# Altium schematic symbol library ATLAS_XP2V5.SCHLIB: 43 symbols
Pins are listed as number, name and electrical type; pins without a type are passive.

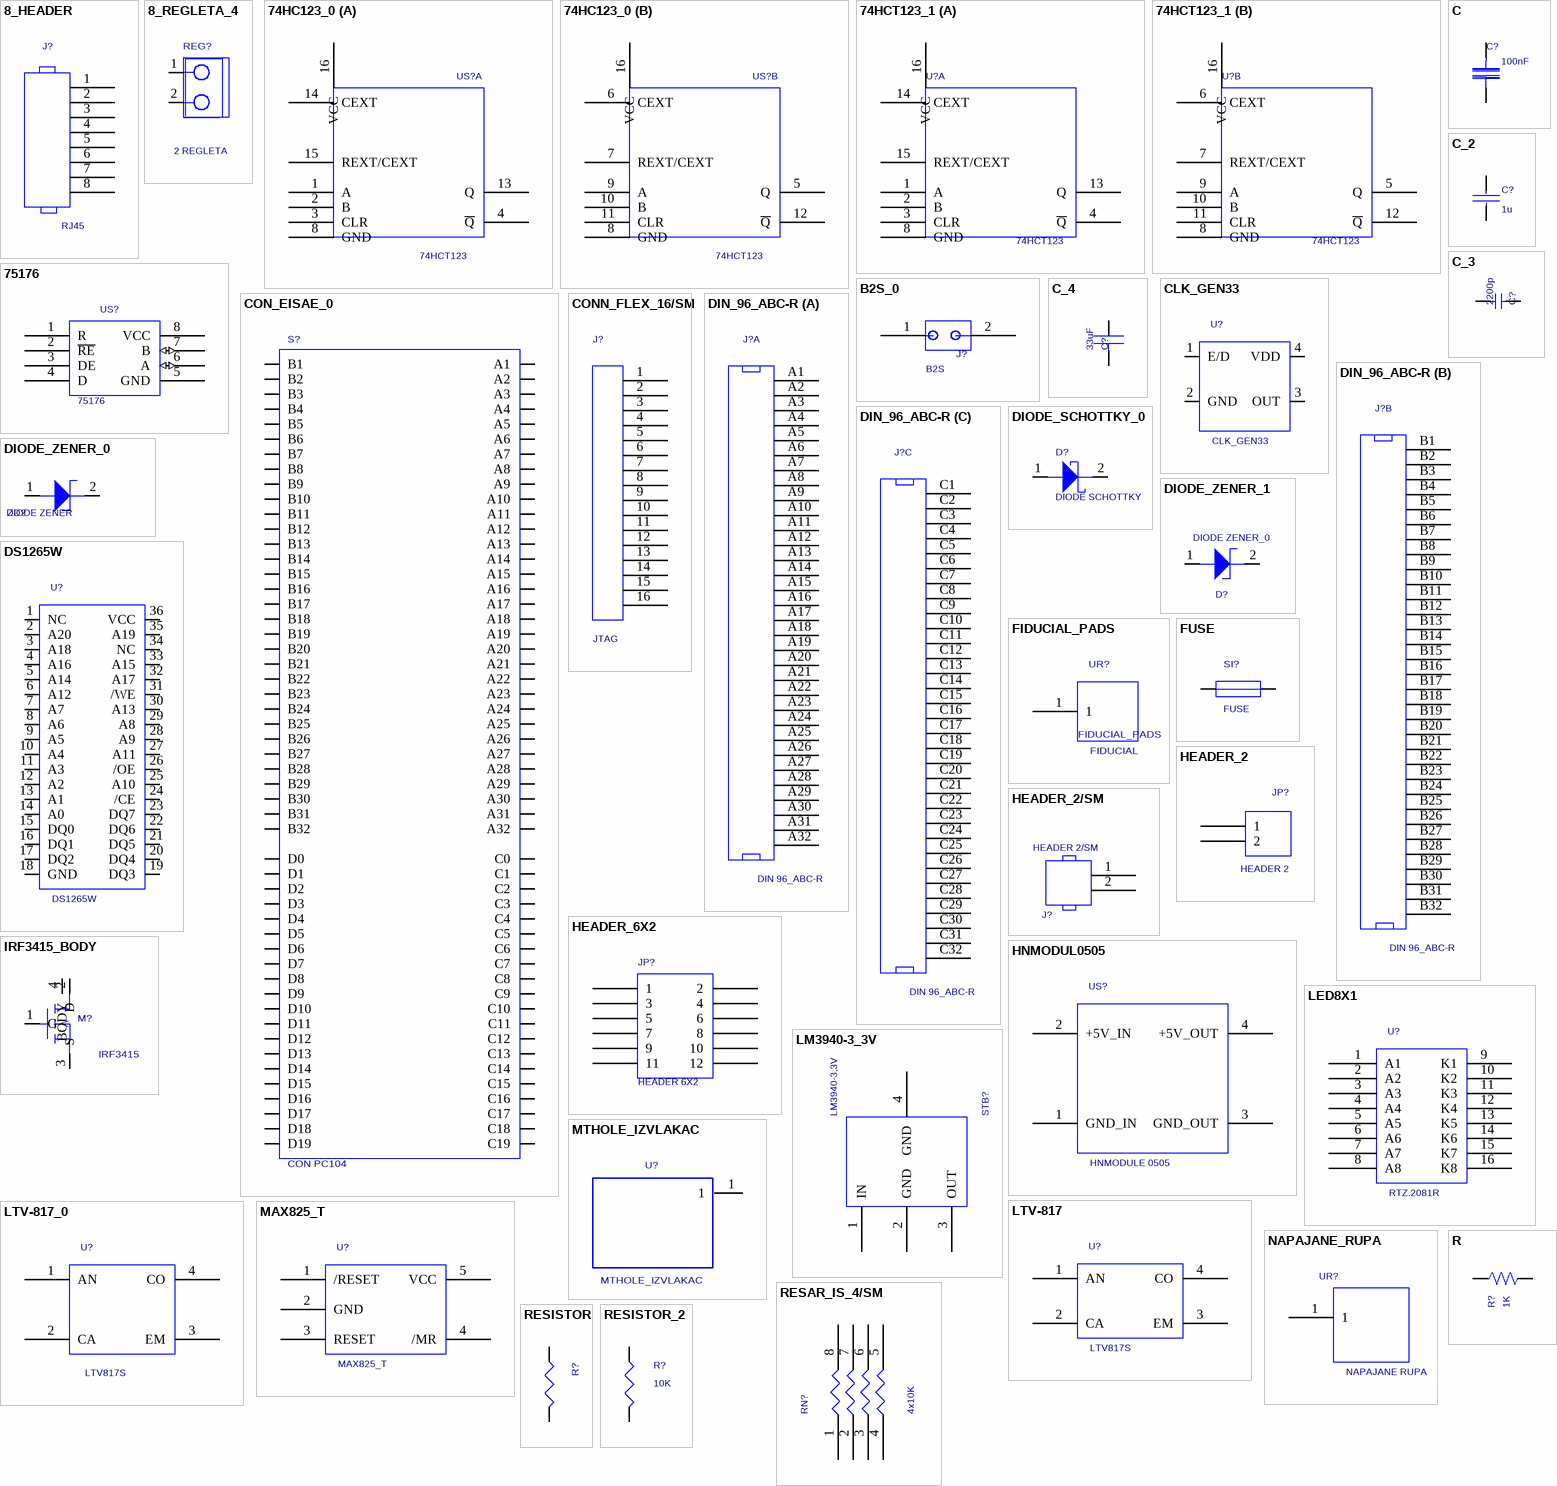
[diagram p0: symbols 8_HEADER to RESISTOR_2]

## 8_HEADER
designator J?  value RJ45  (hidden comment: 8_HEADER)
PCB DECAL: TELE/TM.420FACE/8X8; Source_Path: C:\CADENCE\PSD_15.1\TOOLS\CAPTURE\LIBRARY\CONNECTOR.OLB
footprint TELE/TM.420FACE/8X8
pins: 1, 2, 3, 4, 5, 6, 7, 8

## 8_REGLETA_4
designator REG?  value 2 REGLETA  (hidden comment: 8_REGLETA_4)
PCB DECAL: REG2_REV8; Source_Path: E:\MILOS\PROJECTS\ATLAS_XP\ATLAS_XP.DSN; SDTSourceLibName: C:\WINDOWS\TEMP\ATP_00.LIB
footprint REG2_REV8
pins: 1, 2

## 74HC123_0
designator US?  value 74HCT123  (hidden comment: 74HC123_0)
PCB DECAL: SOG.050/16/WG.244/L.375; Source_Path: E:\MILOS\PROJECTS\ATLAS_XP\ATLAS_XP.DSN
footprint SOG.050/16/WG.244/L.375
part A pins: 1 A, 2 B, 3 CLR, 4 ~{Q}, 8 GND (power), 13 Q, 14 CEXT, 15 REXT/CEXT, 16 VCC (power)
part B pins: 5 Q, 6 CEXT, 7 REXT/CEXT, 8 GND (power), 9 A, 10 B, 11 CLR, 12 ~{Q}, 16 VCC (power)

## 74HCT123_1
designator U?  value 74HCT123  (hidden comment: 74HCT123_1)
PCB DECAL: SOG.050/16/WG.244/L.375; Source_Path: E:\MILOS\PROJECTS\ATLAS_XP\ATLAS_XP.DSN; SDTSourceLibName: C:\WINDOWS\TEMP\PC2A_00.LIB
footprint SOG.050/16/WG.244/L.375
part A pins: 1 A, 2 B, 3 CLR, 4 ~{Q}, 8 GND (power), 13 Q, 14 CEXT, 15 REXT/CEXT, 16 VCC (power)
part B pins: 5 Q, 6 CEXT, 7 REXT/CEXT, 8 GND (power), 9 A, 10 B, 11 CLR, 12 ~{Q}, 16 VCC (power)

## 75176
designator US?
PCB DECAL: SOG.050/8/WG.244/L.225; Source_Path: C:\ORCADESP\SDT\LIBRARY\TARIFA_O.OLB; Value: 75176
footprint SOG.050/8/WG.244/L.225
pins: 1 R (hiz), 2 ~{RE}, 3 DE, 4 D, 5 GND, 6 A (io), 7 B (io), 8 VCC

## B2S_0
designator J?  value B2S  (hidden comment: B2S_0)
PCB DECAL: JUMPER_100; Source_Path: C:\CADENCE\PSD_15.1\TOOLS\ATLAS_ITA\ATLAS_ITA.DSN
footprint JUMPER_100
pins: 1, 2

## C
designator C?  value 100nF  (hidden comment: C)
PCB DECAL: SM/C_0805; Source_Path: D:\ORCADWIN\CAPTURE\ATP_LATT_01\ATP_00.OLB; SDTSourceLibName: C:\WINDOWS\TEMP\ATP_00.LIB
footprint SM/C_0805
pins: 1, 2

## C_2
designator C?  value 1u  (hidden comment: C_2)
PCB DECAL: SM/C_0805; Source_Path: D:\ORCADWIN\CAPTURE\PTA\PC2A_00.OLB; SDTSourceLibName: C:\WINDOWS\TEMP\PC2A_00.LIB
footprint SM/C_0805
pins: 1, 2

## C_3
designator C?  value 2200p  (hidden comment: C_3)
PCB DECAL: SM/C_0805; COMPSIDE: TOP; COMPLOC: [-3400.000,200.000]; COMPROT: 0; COMPFIXED: NO; COMPHEIGHT: 0.000; Source_Path: C:\ORCAD\ORCAD_10.0\TOOLS\CAPTURE\LIBRARY\PSPICE\ANALOG.OLB; DIST: FLAT; PSpiceTemplate: C^@REFDES %1 %2 ?TOLERANCE|C^@REFDES| @VALUE ?IC/IC=@IC/ ?TOLERANCE|\n.model C^@REFDES CAP C=1 DEV=@TOLERANCE%|; VOLTAGE: CMAX; CURRENT: CIMAX; KNEE: CBMAX; SLOPE: CSMAX; MAX_TEMP: CTMAX; COMPGROUP: 0; COMPLOCKED: NO; COMPKEY: NO; DECOUPLER: NO; MEMORY: NO
footprint SM/C_0805
pins: 1, 2

## C_4
designator C?  value 33uF  (hidden comment: C_4)
PCB DECAL: CASE_D_MILOS; Source_Path: C:\ORCAD\ORCAD_10.5\TOOLS\CAPTURE\LIBRARY\IEC\DEVICE.OLB
footprint CASE_D_MILOS
pins: 1, 2

## CLK_GEN33
designator U?
PCB DECAL: CLK_GEN33_REV1; Source_Path: C:\PROJECTS\VHDL_PROJEKTI\DIS32\BIS32_16\BIS32_16.OLB; Value: CLK_GEN33
footprint CLK_GEN33_REV1
pins: 1 E/D, 2 GND (power), 3 OUT, 4 VDD (power)

## CON_EISAE_0
designator S?  value CON PC104  (hidden comment: CON_EISAE_0)
Source_Path: C:\CADENCE\PSD_15.1\TOOLS\ATLAS_ITA\ATLAS_ITA.DSN; PCB DECAL: PC104_REV13
footprint PC104_REV13
pins: A1, A2, A3, A4, A5, A6, A7, A8, A9, A10, A11, A12, A13, A14, A15, A16, A17, A18, A19, A20, A21, A22, A23, A24, A25, A26, A27, A28, A29, A30, A31, A32, B1, B2, B3, B4, B5, B6, B7, B8, B9, B10, B11, B12, B13, B14, B15, B16, B17, B18, B19, B20, B21, B22, B23, B24, B25, B26, B27, B28, B29, B30, B31, B32, C0, C1, C2, C3, C4, C5, C6, C7, C8, C9, C10, C11, C12, C13, C14, C15, C16, C17, C18, C19, D0, D1, D2, D3, D4, D5, D6, D7, D8, D9, D10, D11, D12, D13, D14, D15, D16, D17, D18, D19

## CONN_FLEX_16/SM
designator J?  value JTAG  (hidden comment: CONN_FLEX_16/SM)
PCB DECAL: JTAG_SMD_REV2; Source_Path: C:\ORCAD\ORCAD_10.5\TOOLS\CAPTURE\LIBRARY\CONNECTOR.OLB
footprint JTAG_SMD_REV2
pins: 1, 2, 3, 4, 5, 6, 7, 8, 9, 10, 11, 12, 13, 14, 15, 16

## DIN_96_ABC-R
designator J?  value DIN 96_ABC-R  (hidden comment: DIN_96_ABC-R)
PCB DECAL: DIN96_ABC/R; Source_Path: C:\ORCAD\ORCAD_10.5\TOOLS\CAPTURE\LIBRARY\CONNECTOR.OLB
footprint DIN96_ABC/R
part A pins: A1, A2, A3, A4, A5, A6, A7, A8, A9, A10, A11, A12, A13, A14, A15, A16, A17, A18, A19, A20, A21, A22, A23, A24, A25, A26, A27, A28, A29, A30, A31, A32
part B pins: B1, B2, B3, B4, B5, B6, B7, B8, B9, B10, B11, B12, B13, B14, B15, B16, B17, B18, B19, B20, B21, B22, B23, B24, B25, B26, B27, B28, B29, B30, B31, B32
part C pins: C1, C2, C3, C4, C5, C6, C7, C8, C9, C10, C11, C12, C13, C14, C15, C16, C17, C18, C19, C20, C21, C22, C23, C24, C25, C26, C27, C28, C29, C30, C31, C32

## DIODE_SCHOTTKY_0
designator D?  value DIODE SCHOTTKY  (hidden comment: DIODE_SCHOTTKY_0)
PCB DECAL: SM/DO214AB_21; Source_Path: C:\CADENCE\PSD_15.1\TOOLS\ATLAS_ITA\ATLAS_ITA.DSN
footprint SM/DO214AB_21
pins: 1 ANODE, 2 CATHODE

## DIODE_ZENER_0
designator ZD?  value DIODE ZENER  (hidden comment: DIODE_ZENER_0)
PCB DECAL: SM/D_1206_21; Source_Path: C:\PROJECTS\VHDL_PROJEKTI\BIS32W_ORCAD\BIS32W\BIS32_16.DSN
footprint SM/D_1206_21
pins: 1 ANODE, 2 CATHODE

## DIODE_ZENER_1
designator D?  value DIODE ZENER_0  (hidden comment: DIODE_ZENER_1)
PCB DECAL: BZV55-C3V3; Source_Path: E:\MILOS\PROJECTS\ATLAS_XP2V3\ATLAS_XP2V3.DSN
footprint BZV55-C3V3
pins: 1 ANODE, 2 CATHODE

## DS1265W
designator U?
PCB DECAL: DIP.100/36/W.600/L1.850; Source_Path: E:\MILOS\PROJECTS\ATLAS_XP2V3\DALLAS.OLB; Value: DS1265W
footprint DIP.100/36/W.600/L1.850
pins: 1 NC, 2 A20, 3 A18, 4 A16, 5 A14, 6 A12, 7 A7, 8 A6, 9 A5, 10 A4, 11 A3, 12 A2, 13 A1, 14 A0, 15 DQ0 (io), 16 DQ1 (io), 17 DQ2 (io), 18 GND (power), 19 DQ3 (io), 20 DQ4 (io), 21 DQ5 (io), 22 DQ6 (io), 23 DQ7 (io), 24 /CE, 25 A10, 26 /OE, 27 A11, 28 A9, 29 A8, 30 A13, 31 /WE, 32 A17, 33 A15, 34 NC, 35 A19, 36 VCC (power)

## FIDUCIAL_PADS
designator UR?  value FIDUCIAL
Source_Path: C:\BEKAP STAROG RACUNARA\FOHUB1\FO-HUB1VER.1.01\FOHUB1\SEME\HFBR0050Z.OLB; Geometry.Height: 10.00mil; PCB DECAL: FIDUCIAL_R_TOP; Footprint: FIDUCIAL_R_TOP
footprint FIDUCIAL_R_TOP
pins: 1

## FUSE
designator SI?
PCB DECAL: FUSEHOLDER3; Source_Path: C:\CADENCE\PSD_15.1\TOOLS\CAPTURE\LIBRARY\IEC\DEVICE.OLB; Value: FUSE
footprint FUSEHOLDER3
pins: 1, 2

## HEADER_2
designator JP?  value HEADER 2  (hidden comment: HEADER_2)
PCB DECAL: JUMPER_100; Source_Path: D:\ORCADWIN\CAPTURE\PTA\PC2A_00.OLB; SDTSourceLibName: C:\WINDOWS\TEMP\PC2A_00.LIB
footprint JUMPER_100
pins: 1, 2

## HEADER_2/SM
designator J?  value HEADER 2/SM  (hidden comment: HEADER_2/SM)
PCB DECAL: JUMPER_100; Source_Path: C:\ORCAD\ORCAD_10.5\TOOLS\CAPTURE\LIBRARY\CONNECTOR.OLB
footprint JUMPER_100
pins: 1, 2

## HEADER_6X2
designator JP?  value HEADER 6X2  (hidden comment: HEADER_6X2)
PCB DECAL: BLKCON.100/VH/TM2OE/W.200/12; Source_Path: D:\ORCADWIN\CAPTURE\PTA\PC2A_00.OLB; SDTSourceLibName: C:\WINDOWS\TEMP\PC2A_00.LIB
footprint BLKCON.100/VH/TM2OE/W.200/12
pins: 1, 2, 3, 4, 5, 6, 7, 8, 9, 10, 11, 12

## HNMODUL0505
designator US?  value HNMODULE 0505  (hidden comment: HNMODUL0505)
PCB DECAL: DCDC55; Source_Path: C:\PROJECTS\ATLAS_ITA\LIBRARY1.OLB
footprint DCDC55
pins: 1 GND_IN, 2 +5V_IN (power), 3 GND_OUT, 4 +5V_OUT (power)

## IRF3415_BODY
designator M?  value IRF3415  (hidden comment: IRF3415_BODY)
COMPSIDE: TOP; COMPLOC: [-1200.000,2000.000]; COMPROT: 0; COMPFIXED: NO; COMPHEIGHT: 0.000; Source_Path: C:\CADENCE\PSD_15.1\TOOLS\ATLAS_ITA\ATLAS_ITA.DSN; PSpiceTemplate: M^@REFDES %d %g %s %s @MODEL; PCB DECAL: IRF3415_PADS_REV1; COMPGROUP: 0; COMPLOCKED: NO; COMPKEY: NO; DECOUPLER: NO; MEMORY: NO; Implementation: IRF3415
footprint IRF3415_PADS_REV1
pins: 1 G, 2 D, 3 S, 4 BODY

## LED8X1
designator U?  value RTZ.2081R  (hidden comment: LED8X1)
PCB DECAL: LED_8_REV3_PADS; Source_Path: C:\CADENCE\PSD_15.1\TOOLS\ATLAS_ITA\LIBRARY1.OLB; Geometry.Height: 5.08mm; Order No: 31 G 7692 Buerklin; Footprint: LED_8_REV2
footprint LED_8_REV3_PADS
pins: 1 A1, 2 A2, 3 A3, 4 A4, 5 A5, 6 A6, 7 A7, 8 A8, 9 K1, 10 K2, 11 K3, 12 K4, 13 K5, 14 K6, 15 K7, 16 K8

## LM3940-3_3V
designator STB?  value LM3940-3,3V  (hidden comment: LM3940-3_3V)
PCB DECAL: TO263AA_GND_PLANE_REV1; Source_Path: C:\PROJECTS\VHDL_PROJEKTI\DIS32\BIS32_16\BIS32_16.OLB
footprint TO263AA_GND_PLANE_REV1
pins: 1 IN (power), 2 GND (power), 3 OUT (power), 4 GND (power)

## LTV-817
designator U?  value LTV817S  (hidden comment: LTV-817)
PCB DECAL: LTV814S; Source_Path: C:\PROJECTS\ATLAS_XP\LIBRARY1.OLB
footprint LTV814S
pins: 1 AN, 2 CA, 3 EM, 4 CO

## LTV-817_0
designator U?  value LTV817S  (hidden comment: LTV-817_0)
PCB DECAL: LTV814S; Source_Path: E:\MILOS\PROJECTS\ATLAS_XP\ATLAS_XP.DSN
footprint LTV814S
pins: 1 AN, 2 CA, 3 EM, 4 CO

## MAX825_T
designator U?
PCB DECAL: SOT23_5_MILOS_REV4; Source_Path: E:\MILOS\PROJECTS\ATLAS_XP2V3\ATLASXP.OLB; Value: MAX825_T
footprint SOT23_5_MILOS_REV4
pins: 1 /RESET, 2 GND (power), 3 RESET, 4 /MR, 5 VCC (power)

## MTHOLE_IZVLAKAC
designator U?
Rupa za Rittal-ov izvlakac; PCB DECAL: MTH_IZVLAKAC_PADS
footprint MTH_IZVLAKAC_PADS
pins: 1

## NAPAJANE_RUPA
designator UR?  value NAPAJANE RUPA  (hidden comment: NAPAJANE_RUPA)
PCB DECAL: NAPAJANJE_RUPA_REV1; Source_Path: E:\MILOS\PROJECTS\OBRTOMER\BPC02REV1\LIBRARY1.OLB
footprint NAPAJANJE_RUPA_REV1
pins: 1 (power)

## R
designator R?  value 1K  (hidden comment: R)
PCB DECAL: SM/R_1206; Source_Path: C:\ORCAD\ORCAD_10.0\TOOLS\CAPTURE\LIBRARY\PSPICE\ANALOG.OLB; DIST: FLAT; PSpiceTemplate: R^@REFDES %1 %2 ?TOLERANCE|R^@REFDES| @VALUE  ?TOLERANCE|\n.model R^@REFDES RES R=1 DEV=@TOLERANCE%|; VOLTAGE: RVMAX; SLOPE: RSMAX; MAX_TEMP: RTMAX; POWER: RMAX
footprint SM/R_1206
pins: 1, 2

## RESAR_IS_4/SM
designator RN?  value 4x10K  (hidden comment: RESAR_IS_4/SM)
PCB DECAL: SMD_RX4; Source_Path: C:\ORCAD\ORCAD_10.5\TOOLS\CAPTURE\LIBRARY\DISCRETE.OLB
footprint SMD_RX4
pins: 1, 2, 3, 4, 5, 6, 7, 8

## RESISTOR
designator R?  (value not drawn)
PCB DECAL: SM/R_1206; Source_Path: C:\PROGRAM FILES\ORCAD\CAPTURE\LIBRARY\DISCRETE.OLB; Value: RESISTOR
footprint SM/R_1206
pins: 1, 2

## RESISTOR_2
designator R?  value 10K  (hidden comment: RESISTOR_2)
PCB DECAL: SM/R_1206; Source_Path: C:\CADENCE\PSD_15.1\TOOLS\CAPTURE\LIBRARY\DISCRETE.OLB
footprint SM/R_1206
pins: 1, 2

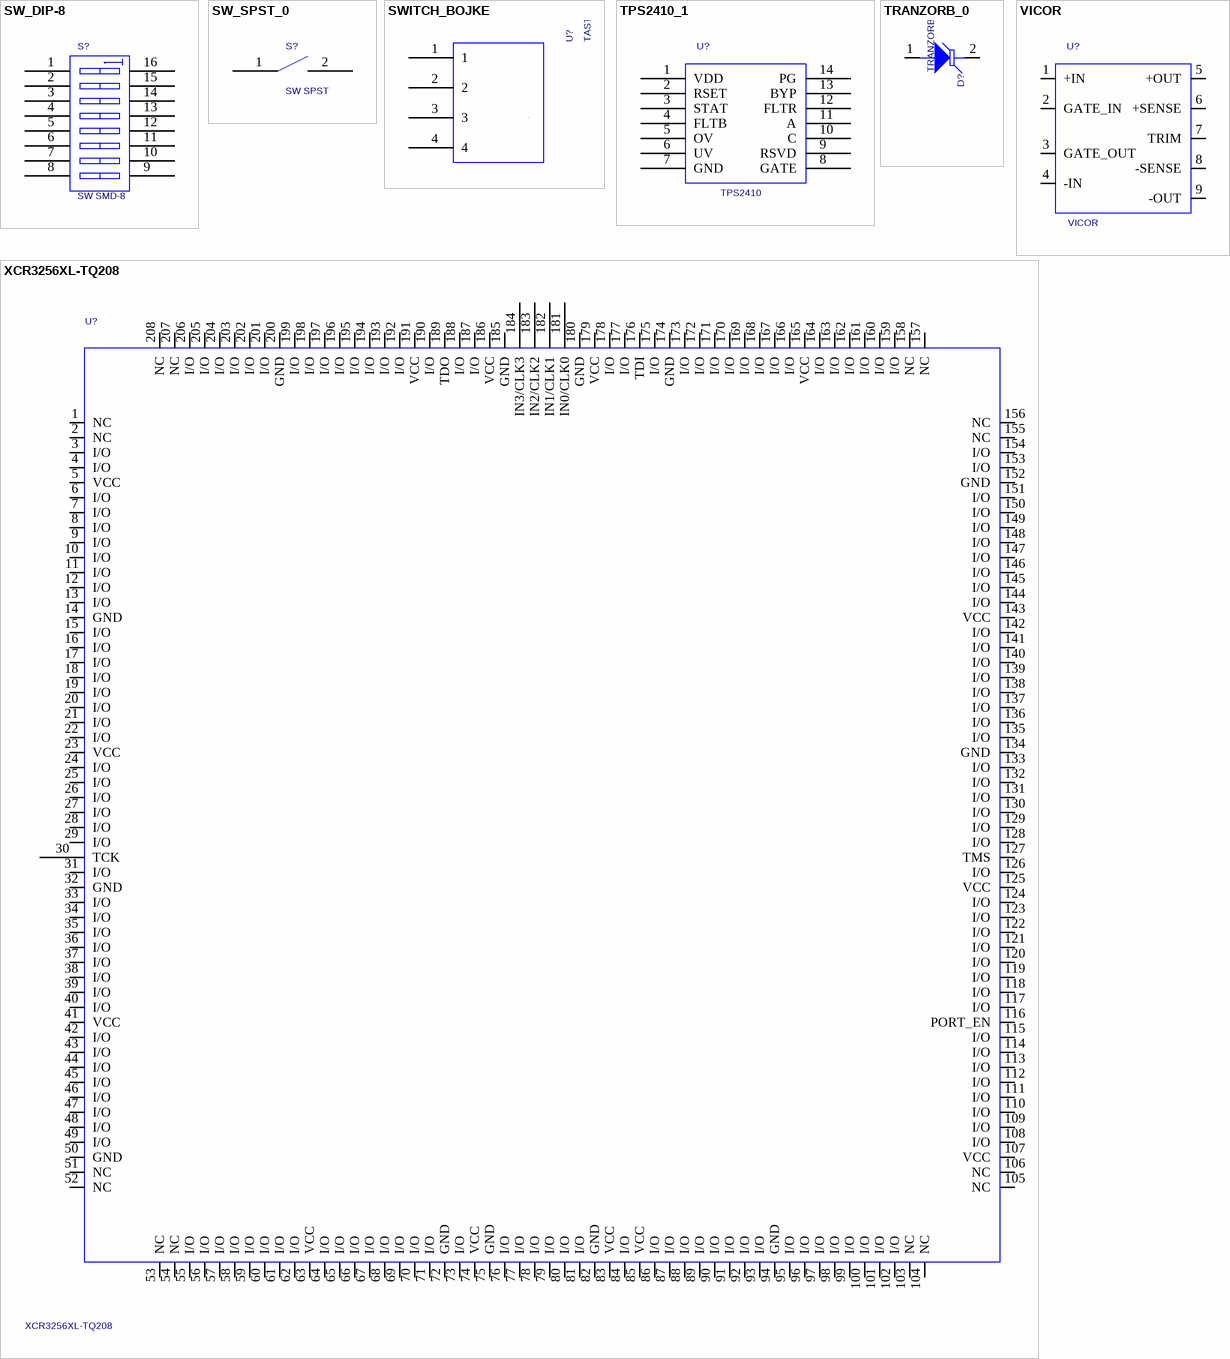
[diagram p1: symbols SW_DIP-8 to XCR3256XL-TQ208]

## SW_DIP-8
designator S?  value SW SMD-8  (hidden comment: SW_DIP-8)
PCB DECAL: SMD_DIPSW_100; Source_Path: C:\CADENCE\PSD_15.1\TOOLS\CAPTURE\LIBRARY\OLDLIBS\DEVICE.OLB
footprint SMD_DIPSW_100
pins: 1 A1, 2 A2, 3 A3, 4 A4, 5 A5, 6 A6, 7 A7, 8 A8, 9 B8, 10 B7, 11 B6, 12 B5, 13 B4, 14 B3, 15 B2, 16 B1

## SW_SPST_0
designator S?  value SW SPST  (hidden comment: SW_SPST_0)
PCB DECAL: SW12V_REV2; Source_Path: C:\CADENCE\PSD_15.1\TOOLS\ATLAS_ITA\ATLAS_ITA.DSN
footprint SW12V_REV2
pins: 1 COMMON, 2 NO

## SWITCH_BOJKE
designator U?  value TASTER  (hidden comment: SWITCH_BOJKE)
RST_TASTER; PCB DECAL: TP33WW080-SPST_PADS; Source_Path: C:\CADENCE\PSD_15.1\TOOLS\ATLAS_ITA\LIBRARY1.OLB; Serial No: TP33WW080; Geometry.Height: 8.65mm; Footprint: TP33WW080-SPST_PADS
footprint TP33WW080-SPST_PADS
pins: 1, 2, 3, 4

## TPS2410_1
designator U?  value TPS2410  (hidden comment: TPS2410_1)
PCB DECAL: PDSO-G14_REV7; FPLIST: DIP.100B/14/W.300/L.800; COMPSIDE: TOP; COMPLOC: [-700.000,900.000]; COMPROT: 0; COMPFIXED: NO; COMPHEIGHT: 0.000; Source_Path: C:\ORCAD\PROJECTS\PUPINATPPCB.DSN; COMPGROUP: 0; COMPLOCKED: NO; COMPKEY: NO; DECOUPLER: NO; MEMORY: NO
footprint PDSO-G14_REV7
pins: 1 VDD, 2 RSET, 3 STAT, 4 FLTB, 5 OV, 6 UV, 7 GND, 8 GATE, 9 RSVD, 10 C, 11 A, 12 FLTR, 13 BYP, 14 PG (oc)

## TRANZORB_0
designator D?  value TRANZORB 5.8V  (hidden comment: TRANZORB_0)
PCB DECAL: SM/DO214AC_21; Source_Path: C:\CADENCE\PSD_15.1\TOOLS\ATLAS_ITA\ATLAS_ITA.DSN
footprint SM/DO214AC_21
pins: 1 ANODE, 2 CATHODE

## VICOR
designator U?
PCB DECAL: VIKOR1; Source_Path: C:\DOCUMENTS AND SETTINGS\RAYVOJ HARDWAREA\DESKTOP\MILOSH.OLB; Value: VICOR
footprint VIKOR1
pins: 1 +IN (power), 2 GATE_IN, 3 GATE_OUT, 4 -IN (power), 5 +OUT (power), 6 +SENSE, 7 TRIM, 8 -SENSE, 9 -OUT (power)

## XCR3256XL-TQ208
designator U?
PCB DECAL: QUAD.50M/208/WG30.60; Source_Path: C:\PROJECTS\XILINX_ORCAD_LIB\XILINX.OLB; Value: XCR3256XL-TQ208
footprint QUAD.50M/208/WG30.60
pins: 1 NC (io), 2 NC (io), 3 I/O (io), 4 I/O (io), 5 VCC (power), 6 I/O (io), 7 I/O (io), 8 I/O (io), 9 I/O (io), 10 I/O (io), 11 I/O (io), 12 I/O (io), 13 I/O (io), 14 GND (power), 15 I/O (io), 16 I/O (io), 17 I/O (io), 18 I/O (io), 19 I/O (io), 20 I/O (io), 21 I/O (io), 22 I/O (io), 23 VCC (power), 24 I/O (io), 25 I/O (io), 26 I/O (io), 27 I/O (io), 28 I/O (io), 29 I/O (io), 30 TCK, 31 I/O (io), 32 GND (power), 33 I/O (io), 34 I/O (io), 35 I/O (io), 36 I/O (io), 37 I/O (io), 38 I/O (io), 39 I/O (io), 40 I/O (io), 41 VCC (power), 42 I/O (io), 43 I/O (io), 44 I/O (io), 45 I/O (io), 46 I/O (io), 47 I/O (io), 48 I/O (io), 49 I/O (io), 50 GND (power), 51 NC (io), 52 NC (io), 53 NC (io), 54 NC (io), 55 I/O (io), 56 I/O (io), 57 I/O (io), 58 I/O (io), 59 I/O (io), 60 I/O (io), 61 I/O (io), 62 I/O (io), 63 VCC (power), 64 I/O (io), 65 I/O (io), 66 I/O (io), 67 I/O (io), 68 I/O (io), 69 I/O (io), 70 I/O (io), 71 I/O (io), 72 GND (power), 73 I/O (io), 74 VCC (power), 75 GND (power), 76 I/O (io), 77 I/O (io), 78 I/O (io), 79 I/O (io), 80 I/O (io), 81 I/O (io), 82 GND (power), 83 VCC (power), 84 I/O (io), 85 VCC (power), 86 I/O (io), 87 I/O (io), 88 I/O (io), 89 I/O (io), 90 I/O (io), 91 I/O (io), 92 I/O (io), 93 I/O (io), 94 GND (power), 95 I/O (io), 96 I/O (io), 97 I/O (io), 98 I/O (io), 99 I/O (io), 100 I/O (io), 101 I/O (io), 102 I/O (io), 103 NC (io), 104 NC (io), 105 NC (io), 106 NC (io), 107 VCC (power), 108 I/O (io), 109 I/O (io), 110 I/O (io), 111 I/O (io), 112 I/O (io), 113 I/O (io), 114 I/O (io), 115 I/O (io), 116 PORT_EN, 117 I/O (io), 118 I/O (io), 119 I/O (io), 120 I/O (io), 121 I/O (io), 122 I/O (io), 123 I/O (io), 124 I/O (io), 125 VCC (power), 126 I/O (io), 127 TMS, 128 I/O (io), 129 I/O (io), 130 I/O (io), 131 I/O (io), 132 I/O (io), 133 I/O (io), 134 GND (power), 135 I/O (io), 136 I/O (io), 137 I/O (io), 138 I/O (io), 139 I/O (io), 140 I/O (io), 141 I/O (io), 142 I/O (io), 143 VCC (power), 144 I/O (io), 145 I/O (io), 146 I/O (io), 147 I/O (io), 148 I/O (io), 149 I/O (io), 150 I/O (io), 151 I/O (io), 152 GND (power), 153 I/O (io), 154 I/O (io), 155 NC (io), 156 NC (io), 157 NC (io), 158 NC (io), 159 I/O (io), 160 I/O (io), 161 I/O (io), 162 I/O (io), 163 I/O (io), 164 I/O (io), 165 VCC (power), 166 I/O (io), 167 I/O (io), 168 I/O (io), 169 I/O (io), 170 I/O (io), 171 I/O (io), 172 I/O (io), 173 I/O (io), 174 GND (power), 175 I/O (io), 176 TDI, 177 I/O (io), 178 I/O (io), 179 VCC (power), 180 GND (power), 181 IN0/CLK0, 182 IN1/CLK1, 183 IN2/CLK2, 184 IN3/CLK3, 185 GND (power), 186 VCC (power), 187 I/O (io), 188 I/O (io), 189 TDO (hiz), 190 I/O (io), 191 VCC (power), 192 I/O (io), 193 I/O (io), 194 I/O (io), 195 I/O (io), 196 I/O (io), 197 I/O (io), 198 I/O (io), 199 I/O (io), 200 GND (power), 201 I/O (io), 202 I/O (io), 203 I/O (io), 204 I/O (io), 205 I/O (io), 206 I/O (io), 207 NC (io), 208 NC (io)